# Altium footprint library 兔子.PcbLib: 20 footprints (part 1 of 2)
Each footprint in its own frame and in the unit in brackets; x right, y up, seen from the top. Pads: shape width x height; smd on the part's side, far side on the other; paste and mask are expansions set on the pad; w line width, h text height; cw(c..) or ccw(c..) is an arc to the next point about the centre after c.
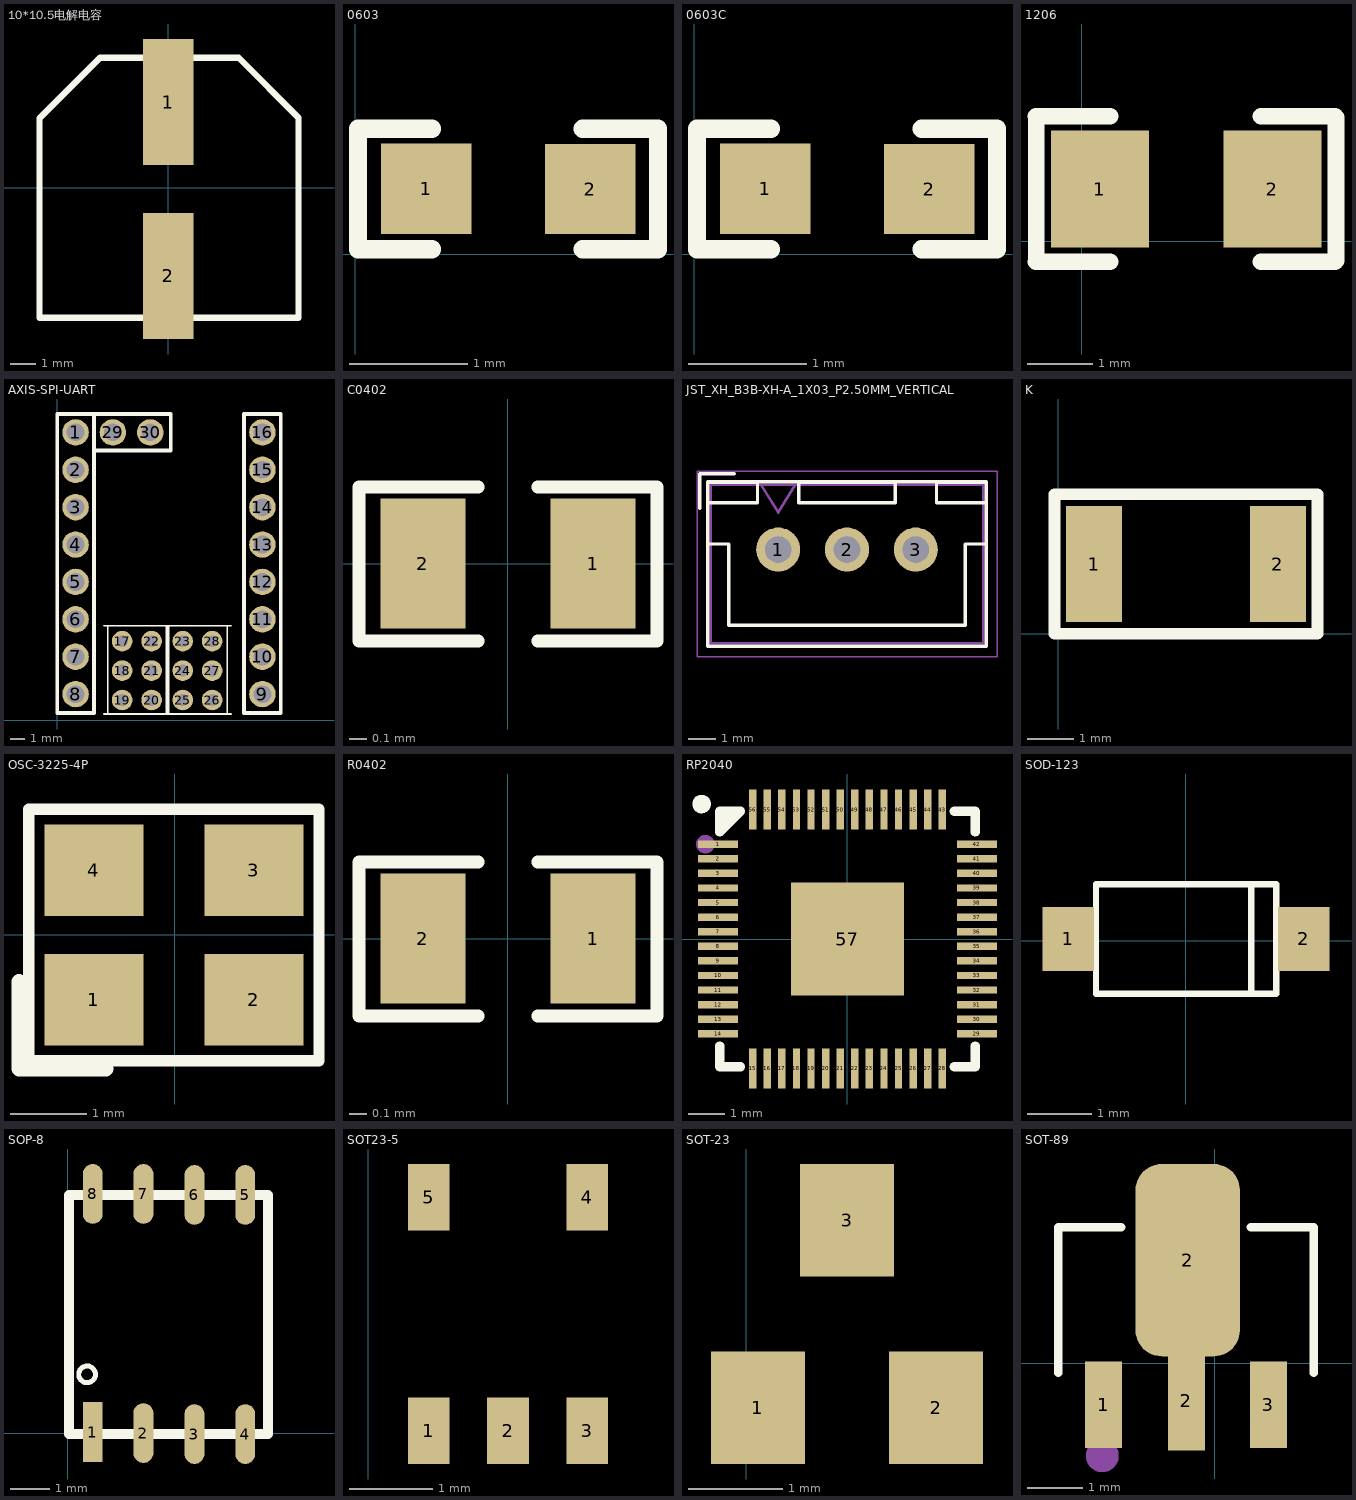
[diagram p0: the footprints below, top view; thin cyan lines are the x and y axes]

## 10*10.5电解电容 [mm]
pads (2):
  rect 2x5 smd: 1(0,3.4) 2(0,-3.5)
Top Overlay:
  lines w0.254: -5.1,-5.15 -5.1,2.75 -2.7,5.15 2.8,5.15 5.175,2.775 5.175,-5.15 -5.1,-5.15
3D body "CM F(10X10.2).STEP": height 10.2, standoff -0.01, extent -5.125,-5.825 5.175,5.775

## 0603 [mil]
pads (2):
  rect 30x30 smd: 1(23.62,21.81) 2(78.12,21.75)
Top Overlay:
  lines w6: 25.62,1.75 0.98,1.75 0.98,41.75 25.62,41.75 ; 75.62,1.75 100.62,1.75 100.62,41.75 75.62,41.75
3D body "0603_R.step": height 20.79, standoff 0.79, extent 18.96,5.77 81.96,37.77

## 0603C [mil]
pads (2):
  rect 30x30 smd: 1(23.62,21.81) 2(78.12,21.75)
Top Overlay:
  lines w6: 25.62,1.75 0.98,1.75 0.98,41.75 25.62,41.75 ; 75.62,1.75 100.62,1.75 100.62,41.75 75.62,41.75
3D body "0603_C.step": height 34.65, standoff 0, extent 19.5,6 82.5,37.89

## 1206 [mm]
pads (2):
  rect 1.5x1.8 smd: 1(0.275,0.8) 2(2.925,0.8)
Top Overlay:
  lines w0.254: -0.706,-0.314 0.432,-0.314 ; -0.706,1.916 0.432,1.916 ; -0.7,-0.3 -0.7,1.9 ; 2.748,-0.314 3.886,-0.314 ; 2.748,1.916 3.886,1.916 ; 3.9,-0.3 3.9,1.9

## AXIS-SPI-UART [mm]
pads (30):
  round 1.8 hole 1.2: 1(1.25,19.55) 2(1.25,17.01) 3(1.25,14.47) 4(1.25,11.93) 5(1.25,9.39) 6(1.25,6.85) 7(1.25,4.31) 8(1.25,1.77) 9(13.95,1.77) 10(13.95,4.31) 11(13.95,6.85) 12(13.95,9.39) 13(13.95,11.93) 14(13.95,14.47) 15(13.95,17.01) 16(13.95,19.55) 29(3.79,19.55) 30(6.33,19.55)
  round 1.4 hole 0.8: 17(4.418,5.368) 18(4.418,3.368) 19(4.418,1.368) 20(6.418,1.368) 21(6.418,3.368) 22(6.418,5.368) 23(8.534,5.368) 24(8.534,3.368) 25(8.534,1.368) 26(10.534,1.368) 27(10.534,3.368) 28(10.534,5.368)
Top Overlay:
  lines w0.127: 3.189,0.418 7.689,0.418 ; 3.189,6.418 7.689,6.418 ; 3.443,0.418 3.443,6.418 ; 7.305,0.418 11.805,0.418 ; 7.305,6.418 11.805,6.418 ; 7.443,0.418 7.443,6.418 ; 7.557,0.483 7.557,6.384 ; 11.559,0.418 11.559,6.418
  lines w0.254: 2.5,20.8 2.5,0.48 0,0.48 0,20.8 2.5,20.8 ; 2.5,20.8 7.725,20.8 7.725,18.325 2.5,18.325 2.5,20.8 ; 12.7,0.48 15.2,0.48 15.2,20.8 12.7,20.8 12.7,0.48
3D body "18p.STEP": height 8.09, standoff -3.61, extent 0,0.332 2.5,20.902
3D body "HDR2.0-LI-2x3P.STEP": height 6.5, standoff -2.8, extent 7.534,0.368 11.534,6.368
3D body "HDR2.0-LI-2x3P.STEP": height 6.5, standoff -2.8, extent 3.418,0.368 7.418,6.368
3D body "Female-Header-2.54-Single-8.stp": height 3.2, standoff -8.5, extent 12.75,0.34 15.25,20.91
3D body "Female-Header-2.54-Single-2.stp": height 8.5, standoff -3.2, extent 2.46,18.325 7.79,20.825

## C0402 [mm]
pads (2):
  rect 0.5x0.762 smd: 1(0.5,0) 2(-0.5,0)
Top Overlay:
  lines w0.075: -0.875,-0.456 -0.175,-0.456 ; -0.875,-0.45 -0.875,0.45 -0.175,0.45 ; 0.175,-0.456 0.875,-0.456 ; 0.175,0.45 0.875,0.45 0.875,-0.45
3D body "0402_C.step": height 0.49, standoff 0, extent -0.5,-0.246 0.5,0.254

## JST_XH_B3B-XH-A_1X03_P2.50MM_VERTICAL [mm]
pads (6):
  round 1.6 hole 0.9: 1(109.22,-129.54) 2(111.72,-129.54) 3(114.22,-129.54)
  round 0 hole 0.95 slot 0.955 at 0 deg: 2(111.72,-129.54) 3(114.22,-129.54) roundrect(109.22,-129.54)
Top Overlay:
  lines w0.12: 106.37,-128.04 106.37,-126.79 107.62,-126.79 ; 106.67,-129.34 107.42,-129.34 107.42,-132.29 111.72,-132.29 116.02,-132.29 116.02,-129.34 116.77,-129.34 ; 106.66,-133.05 116.78,-133.05 116.78,-127.08 106.66,-127.08 106.66,-133.05 ; 106.67,-127.84 108.47,-127.84 108.47,-127.09 106.67,-127.09 106.67,-127.84 ; 109.97,-127.84 113.47,-127.84 113.47,-127.09 109.97,-127.09 109.97,-127.84 ; 114.97,-127.84 116.77,-127.84 116.77,-127.09 114.97,-127.09 114.97,-127.84
Mechanical 1:
  lines w0.05: 106.27,-133.44 117.17,-133.44 117.17,-126.69 106.27,-126.69 106.27,-133.44
Mechanical 15:
  lines w0.1: 108.595,-127.19 109.22,-128.19 109.845,-127.19 ; 106.77,-132.94 116.67,-132.94 116.67,-127.19 106.77,-127.19 106.77,-132.94
  text "J2" at 111.139,-132.689 h1
3D body "JST-B3B-XH-A.STEP": height 7, standoff -3.4, extent 106.77,-132.923 116.67,-127.173

## K [mm]
pads (2):
  rect 1.2x2.5 smd: 1(0.775,1.5) 2(4.725,1.5)
Top Overlay:
  lines w0.254: -0.075,0 5.575,0 5.575,3 -0.075,3 -0.075,0

## OSC-3225-4P [mm]
pads (4):
  rect 1.3x1.2 smd: 1(-1.061,-0.852) 2(1.039,-0.852) 3(1.039,0.848) 4(-1.061,0.848)
Top Overlay:
  lines w0.15: -1.916,-1.653 1.894,-1.653 1.894,1.649 -1.916,1.649 -1.916,-1.653
  lines w0.2: -2.043,-1.755 -0.9,-1.755 ; -2.043,-1.729 -2.043,-0.612
3D body "OSC 3225-4P.STEP": height 0.7, standoff -0.02, extent -1.625,-1.281 1.575,1.219

## R0402 [mm]
pads (2):
  rect 0.5x0.762 smd: 1(0.5,0) 2(-0.5,0)
Top Overlay:
  lines w0.075: -0.875,-0.456 -0.175,-0.456 ; -0.875,-0.45 -0.875,0.45 -0.175,0.45 ; 0.175,-0.456 0.875,-0.456 ; 0.175,0.45 0.875,0.45 0.875,-0.45
3D body "0402_R.step": height 0.38, standoff 0.02, extent -0.492,-0.25 0.498,0.258

## RP2040 [mm]
pads (57):
  rect 1.1x0.2 smd: 1(-3.538,2.611) 2(-3.538,2.211) 3(-3.538,1.811) 4(-3.538,1.411) 5(-3.538,1.011) 6(-3.538,0.611) 7(-3.538,0.211) 8(-3.538,-0.189) 9(-3.538,-0.589) 10(-3.538,-0.989) 11(-3.538,-1.389) 12(-3.538,-1.789) 13(-3.538,-2.189) 14(-3.538,-2.589) 29(3.562,-2.589) 30(3.562,-2.189) 31(3.562,-1.789) 32(3.562,-1.389) 33(3.562,-0.989) 34(3.562,-0.589) 35(3.562,-0.189) 36(3.562,0.211) 37(3.562,0.611) 38(3.562,1.011) 39(3.562,1.411) 40(3.562,1.811) 41(3.562,2.211) 42(3.562,2.611)
  rect 0.2x1.1 smd: 15(-2.588,-3.539) 16(-2.188,-3.539) 17(-1.788,-3.539) 18(-1.388,-3.539) 19(-0.988,-3.539) 20(-0.588,-3.539) 21(-0.188,-3.539) 22(0.212,-3.539) 23(0.612,-3.539) 24(1.012,-3.539) 25(1.412,-3.539) 26(1.812,-3.539) 27(2.212,-3.539) 28(2.612,-3.539) 43(2.612,3.561) 44(2.212,3.561) 45(1.812,3.561) 46(1.412,3.561) 47(1.012,3.561) 48(0.612,3.561) 49(0.212,3.561) 50(-0.188,3.561) 51(-0.588,3.561) 52(-0.988,3.561) 53(-1.388,3.561) 54(-1.788,3.561) 55(-2.188,3.561) 56(-2.588,3.561)
  rect 3.1x3.1 smd: 57(0.012,0.011)
Top Overlay:
  circle w0.254: c-3.988,3.711 r0.127
  lines w0.254: -3.488,-2.921 -3.488,-3.489 -3.388,-3.489 -2.919,-3.489 ; -3.488,3.155 -3.229,3.414 -3.229,3.511 ; 2.943,-3.489 3.512,-3.489 3.512,-2.921 ; 2.943,3.511 3.512,3.511 3.512,2.942 ; -3.488,2.942 -2.919,3.511 -3.488,3.511 -3.488,2.942
Mechanical 15:
  circle w0.254: c-3.888,2.611 r0.127

## SOD-123 [mm]
pads (2):
  rect 0.8x1 smd: 1(-1.829,0.025) 2(1.829,0.025)
Top Overlay:
  lines w0.1: 1.016,-0.825 1.016,0.875 ; -1.397,-0.825 -1.397,0.875 1.403,0.875 1.403,-0.825 -1.397,-0.825
3D body "SOD-123_DiodesInc.STEP": height 1.43, standoff -0.02, extent -1.9,-0.864 1.95,0.836

## SOP-8 [mm]
pads (8):
  rect 0.5x1.5 smd: 1(0.625,0.025)
  oval 0.5x1.5 smd: 2(1.895,0) 3(3.175,-0.025) 4(4.45,-0.025) 5(4.45,5.975) 6(3.175,5.975) 7(1.895,6) 8(0.625,6)
Top Overlay:
  circle w0.125: c0.483,1.473 r0.209
  lines w0.254: 5,5.975 5.025,5.95 ; 0.025,-0.025 0.025,5.975 5.025,5.975 5.025,-0.025 0.025,-0.025
3D body "SOIC8_4P9X3P9MC_MCH.step": height 1.75, standoff 0, extent 0.074,-0.124 4.976,6.074

## SOT23-5 [mm]
pads (5):
  rect 0.5x0.8 smd: 1(0.725,0.7) 2(1.675,0.7) 3(2.625,0.7) 4(2.625,3.5) 5(0.725,3.5)

## SOT-23 [mm]
pads (3):
  rect 1x1.2 smd: 1(0.125,0.95) 2(2.025,0.95) 3(1.075,2.95)
3D body "SOT23-3.STEP": height 1.05, standoff 0, extent -0.435,0.648 2.565,3.048

## SOT-89 [mm]
pads (4):
  rect 0.672x1.575 smd: 1(-2.024,-0.749) 3(0.976,-0.749)
  rect 0.672x1.8 smd: 2(-0.515,-0.68)
  rrect50% 1.9x3.5 smd: 2(-0.493,1.88)
Top Overlay:
  lines w0.152: -2.85,-0.174 -2.85,2.479 -1.701,2.479 ; 0.654,2.479 1.802,2.479 1.802,-0.174
Mechanical 15:
  circle w0.3: c-2.048,-1.679 r0.15